# EAGLE library part WR-MPC3_18PIN (library bytewerk-con)
WR-MPC3 18 pins Imax=5A
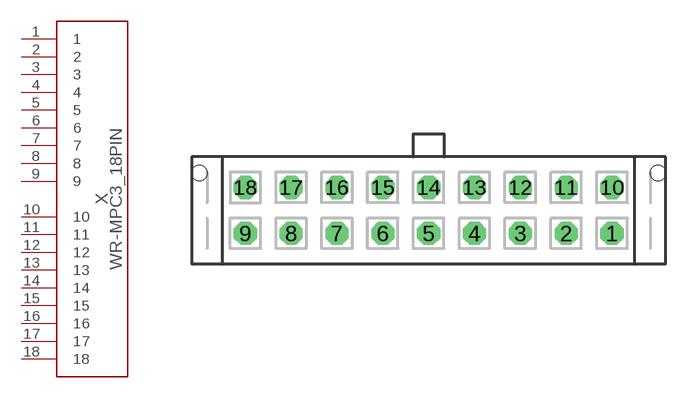
[diagram p4: symbol with the pads of 66201821122; footprint 66201821122]

Designator prefix X

## WR-MPC3_18PIN (MF: Wuerth Electronic; MPN: 66201821122; OC_FARNELL: 2113415)  [66201821122]
1  1  pas
2  2  pas
3  3  pas
4  4  pas
5  5  pas
6  6  pas
7  7  pas
8  8  pas
9  9  pas
10  10  pas
11  11  pas
12  12  pas
13  13  pas
14  14  pas
15  15  pas
16  16  pas
17  17  pas
18  18  pas

## Footprint 66201821122 (pad centres in mm)
drill 1 octagon: 1 12,-1.5; 2 9,-1.5; 3 6,-1.5; 4 3,-1.5; 5 0,-1.5; 6 -3,-1.5; 7 -6,-1.5; 8 -9,-1.5; 9 -12,-1.5; 10 12,1.5; 11 9,1.5; 12 6,1.5; 13 3,1.5; 14 0,1.5; 15 -3,1.5; 16 -6,1.5; 17 -9,1.5; 18 -12,1.5
hole 1 at -15,2.44
hole 1 at 15,2.44